# EAGLE library part 2RJ11-6L-B (library con-tycoelectronics)
CORCOM Modular RJ Jacks L - Ganged Series Source: www.tycoelectronics.com .. ENG_DS_1654001_1099_RJ_L_0507.pdf
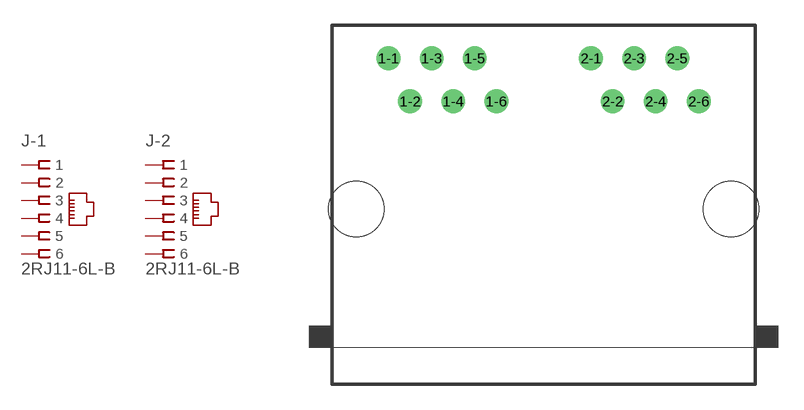
[diagram p3: symbol with the pads of 2RJ11; footprint 2RJ11]

Designator prefix J; gates -1=JACK6 -2=JACK6

## 2RJ11-6L-B (MF: TYCO ELECTRONICS; MPN: 2RJ11-6L-B; OC_FARNELL: unknown; OC_NEWARK: 48F3954)  [2RJ11]
1-1  -1:1  pas
1-2  -1:2  pas
1-3  -1:3  pas
1-4  -1:4  pas
1-5  -1:5  pas
1-6  -1:6  pas
2-1  -2:1  pas
2-2  -2:2  pas
2-3  -2:3  pas
2-4  -2:4  pas
2-5  -2:5  pas
2-6  -2:6  pas

## Footprint 2RJ11 (pad centres in mm)
RJ11 x 2 Source: www.tycoelectronics.com .. ENG_DS_1654001_1099_RJ_L_0507.pdf
drill 0.9 pad 1.4: 1-1 -9.144,8.89; 1-2 -7.874,6.35; 1-3 -6.604,8.89; 1-4 -5.334,6.35; 1-5 -4.064,8.89; 1-6 -2.794,6.35; 2-1 2.794,8.89; 2-2 4.064,6.35; 2-3 5.334,8.89; 2-4 6.604,6.35; 2-5 7.874,8.89; 2-6 9.144,6.35
hole 3.251 at -11.049,0
hole 3.251 at 11.049,0